# Altium schematic symbol library SCH - POWER - LINEAR VREG - TI TPS79333-EP_DBV_5.SchLib: 1 symbol
Pins are listed as number, name and electrical type; pins without a type are passive.

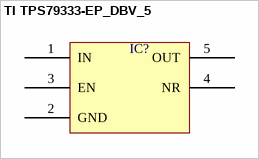
[diagram p0: symbol TI TPS79333-EP_DBV_5]

## TI TPS79333-EP_DBV_5
designator IC?  (value not drawn)
pins: 1 IN, 2 GND, 3 EN, 4 NR, 5 OUT